# EAGLE library part BQ25606 (library vikc-ic)
The bq25606 device a highly-integrated standalone 3.0-A switch-mode battery charge management and system power path management device for single cell Li-Ion and Li-polymer battery.
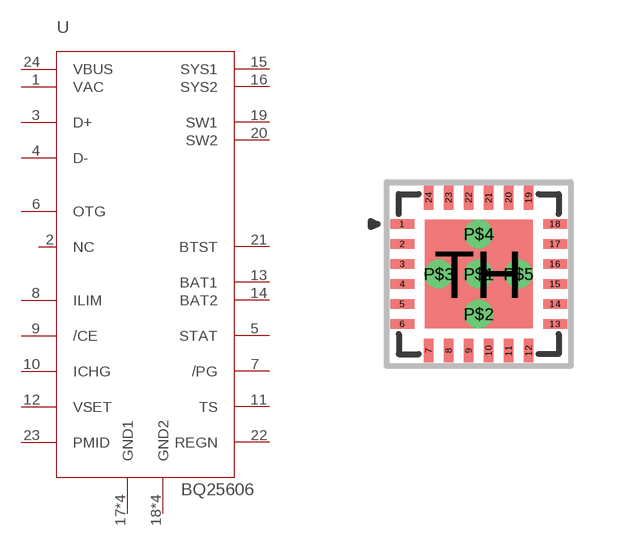
[diagram p13: symbol with the pads of UQFN28_4X4MM; footprint UQFN28_4X4MM]

Designator prefix U

## BQ25606  [UQFN28_4X4MM]
1  VAC
2  NC  nc
3  D+
4  D-
5  STAT
6  OTG
7  /PG
8  ILIM
9  /CE
10  ICHG
11  TS
12  VSET
13  BAT1
14  BAT2
15  SYS1
16  SYS2
17  GND1
18  GND2
19  SW1
20  SW2
21  BTST
22  REGN
23  PMID
24  VBUS
P$1  GND1
P$2  GND2
P$3  GND2
P$4  GND1
P$5  GND1
TH  GND2

## Footprint UQFN28_4X4MM (pad centres in mm)
24-Lead,VQFN,4x4 mm
smd 0.6 x 0.24: 1 -1.913,1.25; 2 -1.913,0.75; 3 -1.913,0.25; 4 -1.913,-0.25; 5 -1.913,-0.75; 6 -1.913,-1.25; 13 1.913,-1.25; 14 1.913,-0.75; 15 1.913,-0.25; 16 1.913,0.25; 17 1.913,0.75; 18 1.913,1.25
smd 0.24 x 0.6: 7 -1.25,-1.913; 8 -0.75,-1.913; 9 -0.25,-1.913; 10 0.25,-1.913; 11 0.75,-1.913; 12 1.25,-1.913; 19 1.25,1.913; 20 0.75,1.913; 21 0.25,1.913; 22 -0.25,1.913; 23 -0.75,1.913; 24 -1.25,1.913
drill 0.2 pad 0.35: P$1 0,0; P$2 0,-1; P$3 -1,0; P$4 0,1; P$5 1,0
smd 2.7 x 2.7: TH 0,0